# Altium schematic symbol library LM5160ADNTT.SchLib: 1 symbol
Pins are listed as number, name and electrical type; pins without a type are passive.

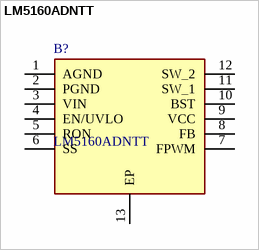
[diagram p0: symbol LM5160ADNTT]

## LM5160ADNTT
designator B?
LM5160A Wide Input 65V, 2A Synchronous Buck / Fly-Buck Converter; Manufacturer_Name: Texas Instruments; Geometry.Height: 1mm; Manufacturer_Part_Number: LM5160ADNTT; Mouser Part Number: 595-LM5160ADNTT; Mouser Price/Stock: https://www.mouser.co.uk/ProductDetail/Texas-Instruments/LM5160ADNTT?qs=2iGeymVCXnWysiM%2FMZotQQ%3D%3D; Arrow Part Number: LM5160ADNTT; Arrow Price/Stock: https://www.arrow.com/en/products/lm5160adntt/texas-instruments?region=nac; Datasheet Link: http://www.ti.com/lit/gpn/lm5160a
footprint SON50P400X400X100-13N
pins: 1 AGND, 2 PGND, 3 VIN, 4 EN/UVLO, 5 RON, 6 SS, 7 FPWM, 8 FB, 9 VCC, 10 BST, 11 SW_1, 12 SW_2, 13 EP